# Altium footprint library PCB - LED - Harvatek B38G3RGB-10D0003H2U1930.PCBLIB: 1 footprints
Each footprint in its own frame and in the unit in brackets; x right, y up, seen from the top. Pads: shape width x height; smd on the part's side, far side on the other; paste and mask are expansions set on the pad; w line width, h text height; cw(c..) or ccw(c..) is an arc to the next point about the centre after c.
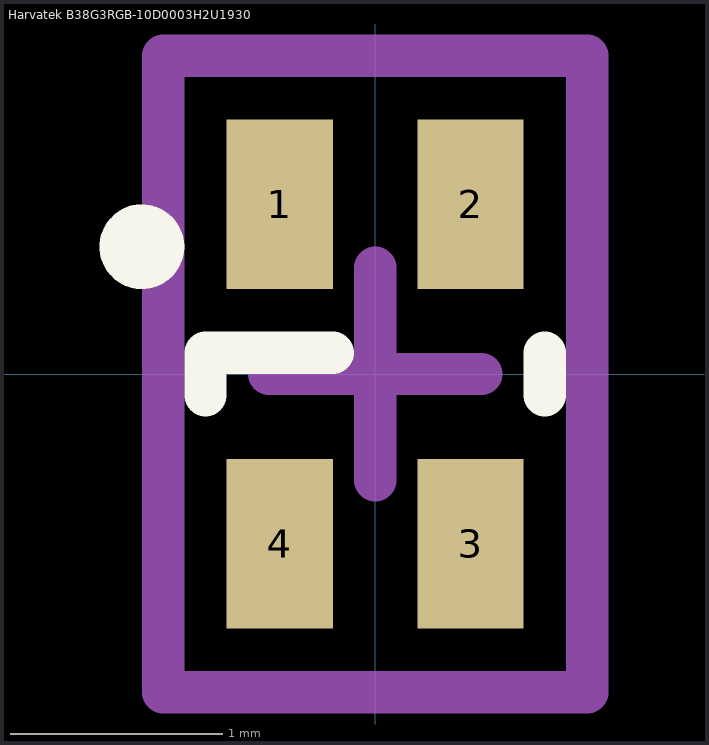
[diagram p0: the footprint, top view; thin cyan lines are the x and y axes]

## Harvatek B38G3RGB-10D0003H2U1930 [mm] "LED RGB COMMON ANODE"
height 1.4
pads (4):
  rect 0.5x0.8 smd: 1(-0.45,0.8) 2(0.45,0.8) 3(0.45,-0.8) 4(-0.45,-0.8)
Top Overlay:
  circle w0.2: c-1.1,0.6 r0.1
  lines w0.2: -0.8,-0.1 -0.8,0.1 -0.2,0.1 ; 0.8,-0.1 0.8,0.1
Top Assembly:
  lines w0.2: -0.5,0 0.5,0 ; 0,-0.5 0,0.5
Top Courtyard (Mech15):
  lines w0.2: -1,-1.5 -1,1.5 1,1.5 1,-1.5 -1,-1.5
3D body "Harvatek B38G3RGB-10D0003H2U1930.step": height 0.24, standoff 0, extent -0.8,-0.8 0.8,0.8
3D body "Harvatek B38G3RGB-10D0003H2U1930 Lens.step": height 0.4, standoff 0.14, extent -0.8,-0.55 0.8,0.55